# Altium footprint library qfp_footp.PcbLib: 36 footprints (part 3 of 4)
Each footprint in its own frame and in the unit in brackets; x right, y up, seen from the top. Pads: shape width x height; smd on the part's side, far side on the other; paste and mask are expansions set on the pad; w line width, h text height; cw(c..) or ccw(c..) is an arc to the next point about the centre after c.
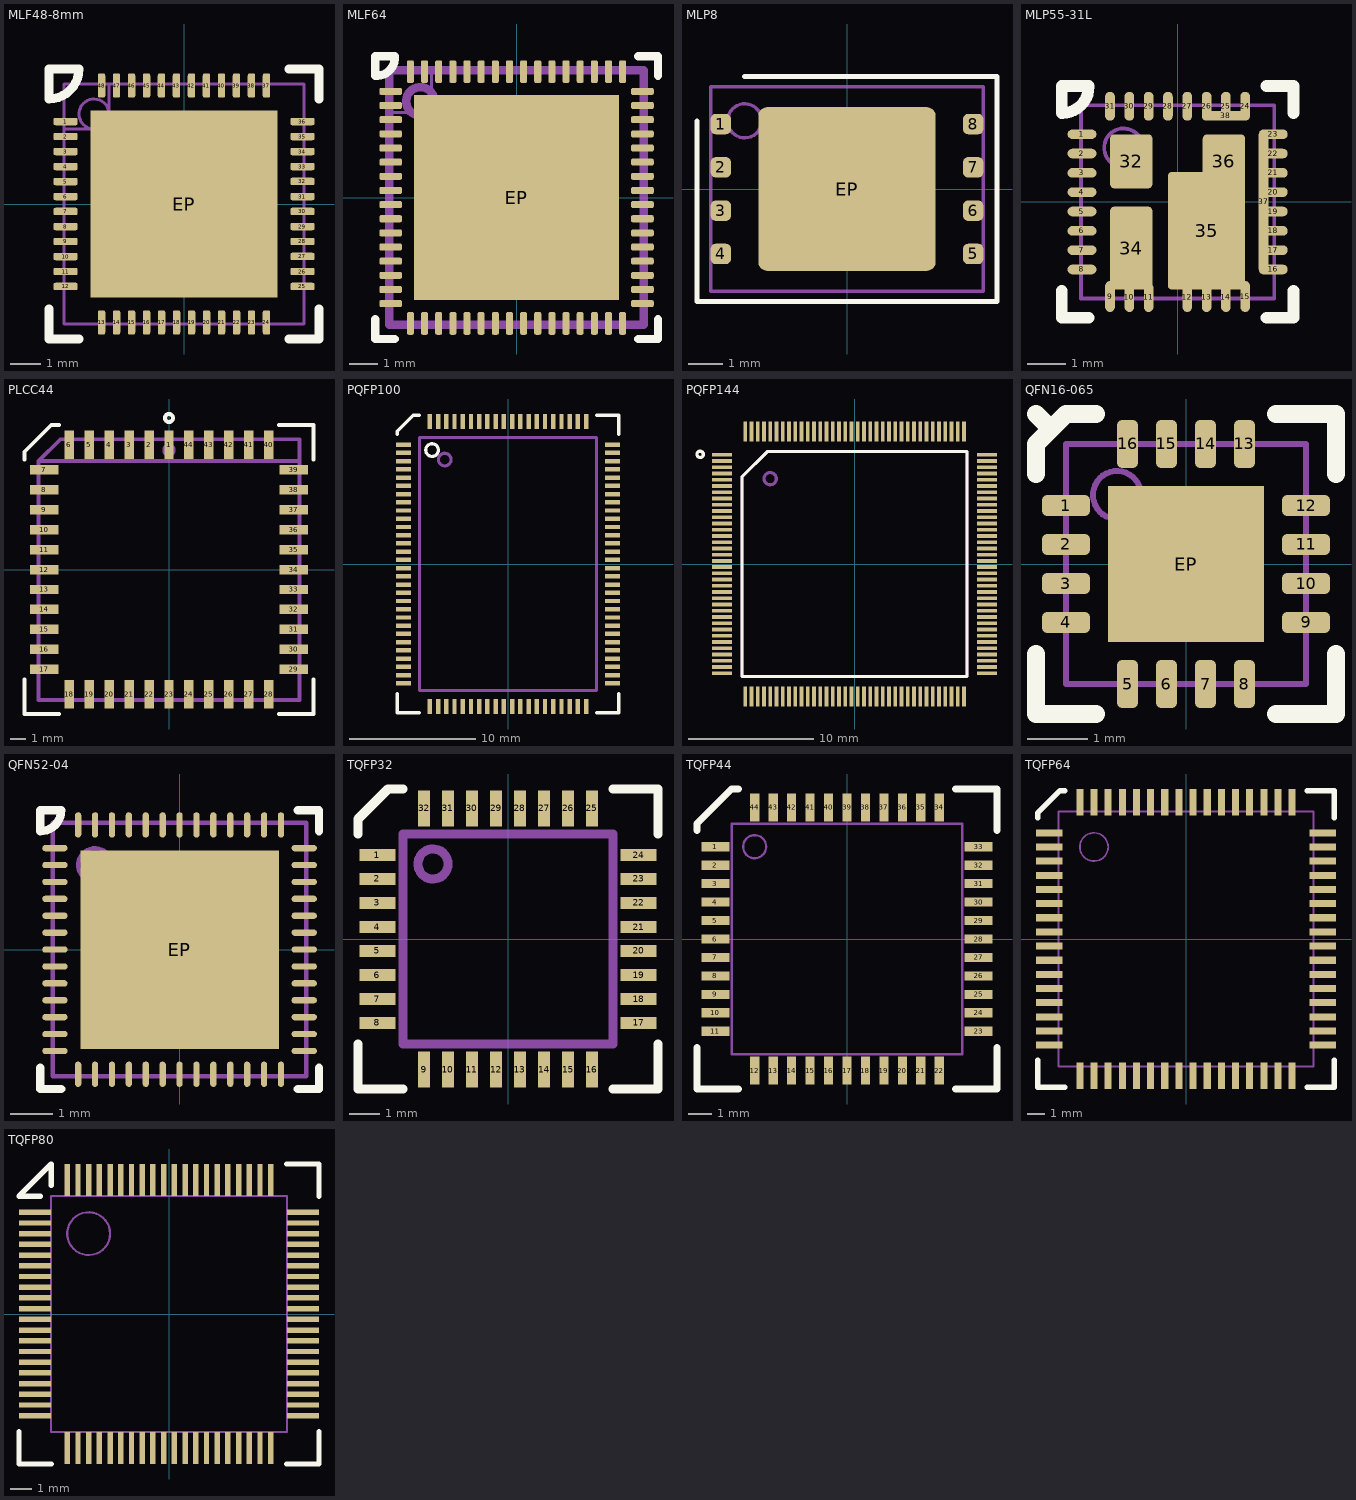
[diagram p2: the footprints below, top view; thin cyan lines are the x and y axes]

## MLF48-8mm [mm]
height 1
pads (49):
  rrect50% 0.8x0.25 smd: 1(-3.95,2.75) 2(-3.95,2.25) 3(-3.95,1.75) 4(-3.95,1.25) 5(-3.95,0.75) 6(-3.95,0.25) 7(-3.95,-0.25) 8(-3.95,-0.75) 9(-3.95,-1.25) 10(-3.95,-1.75) 11(-3.95,-2.25) 12(-3.95,-2.75) 25(3.95,-2.75) 26(3.95,-2.25) 27(3.95,-1.75) 28(3.95,-1.25) 29(3.95,-0.75) 30(3.95,-0.25) 31(3.95,0.25) 32(3.95,0.75) 33(3.95,1.25) 34(3.95,1.75) 35(3.95,2.25) 36(3.95,2.75)
  rrect50% 0.25x0.8 smd: 13(-2.75,-3.95) 14(-2.25,-3.95) 15(-1.75,-3.95) 16(-1.25,-3.95) 17(-0.75,-3.95) 18(-0.25,-3.95) 19(0.25,-3.95) 20(0.75,-3.95) 21(1.25,-3.95) 22(1.75,-3.95) 23(2.25,-3.95) 24(2.75,-3.95) 37(2.75,3.95) 38(2.25,3.95) 39(1.75,3.95) 40(1.25,3.95) 41(0.75,3.95) 42(0.25,3.95) 43(-0.25,3.95) 44(-0.75,3.95) 45(-1.25,3.95) 46(-1.75,3.95) 47(-2.25,3.95) 48(-2.75,3.95)
  rect 6.25x6.25 smd paste-4: EP(0,0)
Top Overlay:
  lines w0.3: -4.5,-3.5 -4.5,-4.5 -3.5,-4.5 ; 3.5,-4.5 4.5,-4.5 4.5,-3.5 ; 3.5,4.5 4.5,4.5 4.5,3.5 ; -4.5,3.5 ccw(c-4.5,4.5) -3.5,4.5 -4.5,4.5 -4.5,3.5
Top Paste:
  rectangle: -0.6,-2.6 0.6,-1.4
  rectangle: 1.4,-2.6 2.6,-1.4
  rectangle: -2.6,-2.6 -1.4,-1.4
  rectangle: -0.6,1.4 0.6,2.6
  rectangle: 1.4,1.4 2.6,2.6
  rectangle: -2.6,1.4 -1.4,2.6
  rectangle: -2.6,-0.6 -1.4,0.6
  rectangle: 1.4,-0.6 2.6,0.6
  rectangle: -0.6,-0.6 0.6,0.6
Mechanical 1:
  circle w0.1: c-3,3 r0.5
  lines w0.1: -4,-4 -4,4 4,4 4,-4 -4,-4
Mechanical 5:
  lines w0.1: -4,2.5 -2.5,2.5 -2.5,4 ; -4,-4 -4,4 4,4 4,-4 -4,-4
  text ".Designator" at -1.5,-1 h1.5
Mechanical 6:
  lines w0.1: -4,2.5 -2.5,2.5 -2.5,4 ; -4,-4 4,-4 4,4 -4,4 -4,-4
  text ".Comment" at -1.5,-1 h1.5
3D body: height 0.2, standoff 0, extent -2.875,3.95 -2.625,4.05
3D body: height 0.2, standoff 0, extent -2.375,3.95 -2.125,4.05
3D body: height 0.2, standoff 0, extent -1.875,3.95 -1.625,4.05
3D body: height 0.2, standoff 0, extent -1.375,3.95 -1.125,4.05
3D body: height 0.2, standoff 0, extent 0.125,3.95 0.375,4.05
3D body: height 0.2, standoff 0, extent 0.625,3.95 0.875,4.05
3D body: height 0.2, standoff 0, extent -0.875,3.95 -0.625,4.05
3D body: height 0.2, standoff 0, extent -0.375,3.95 -0.125,4.05
3D body: height 0.2, standoff 0, extent 1.625,3.95 1.875,4.05
3D body: height 0.2, standoff 0, extent 1.125,3.95 1.375,4.05
3D body: height 0.2, standoff 0, extent -4.05,2.125 -3.95,2.375
3D body: height 0.2, standoff 0, extent -4.05,2.625 -3.95,2.875
3D body: height 0.2, standoff 0, extent -4.05,0.625 -3.95,0.875
3D body: height 0.2, standoff 0, extent -4.05,0.125 -3.95,0.375
3D body: height 0.2, standoff 0, extent -4.05,1.625 -3.95,1.875
3D body: height 0.2, standoff 0, extent -4.05,1.125 -3.95,1.375
3D body: height 0.2, standoff 0, extent 3.95,0.125 4.05,0.375
3D body: height 0.2, standoff 0, extent 3.95,-0.375 4.05,-0.125
3D body: height 0.2, standoff 0, extent 3.95,1.125 4.05,1.375
3D body: height 0.2, standoff 0, extent 3.95,0.625 4.05,0.875
3D body: height 0.2, standoff 0, extent 3.95,-1.375 4.05,-1.125
3D body: height 0.2, standoff 0, extent 3.95,-0.875 4.05,-0.625
3D body: height 0.2, standoff 0, extent -1.875,-4.05 -1.625,-3.95
3D body: height 0.2, standoff 0, extent -2.375,-4.05 -2.125,-3.95
3D body: height 0.2, standoff 0, extent -0.875,-4.05 -0.625,-3.95
3D body: height 0.2, standoff 0, extent -1.375,-4.05 -1.125,-3.95
3D body: height 0.2, standoff 0, extent -4.05,-2.875 -3.95,-2.625
3D body: height 0.2, standoff 0, extent -2.875,-4.05 -2.625,-3.95
3D body: height 0.2, standoff 0, extent 2.125,3.95 2.375,4.05
3D body: height 0.2, standoff 0, extent 2.625,3.95 2.875,4.05
3D body: height 0.2, standoff 0, extent 3.95,-1.875 4.05,-1.625
3D body: height 0.2, standoff 0, extent 3.95,-2.375 4.05,-2.125
3D body: height 0.2, standoff 0, extent -0.375,-4.05 -0.125,-3.95
3D body: height 0.2, standoff 0, extent 0.125,-4.05 0.375,-3.95
3D body: height 0.2, standoff 0, extent -4.05,-0.375 -3.95,-0.125
3D body: height 0.2, standoff 0, extent -4.05,-0.875 -3.95,-0.625
3D body: height 0.2, standoff 0, extent 1.625,-4.05 1.875,-3.95
3D body: height 0.2, standoff 0, extent 1.125,-4.05 1.375,-3.95
3D body: height 0.2, standoff 0, extent 0.625,-4.05 0.875,-3.95
3D body: height 0.2, standoff 0, extent 3.95,1.625 4.05,1.875
3D body: height 0.2, standoff 0, extent 3.95,2.125 4.05,2.375
3D body: height 0.2, standoff 0, extent 3.95,2.625 4.05,2.875
3D body: height 0.2, standoff 0, extent 2.625,-4.05 2.875,-3.95
3D body: height 0.2, standoff 0, extent 3.95,-2.875 4.05,-2.625
3D body: height 0.2, standoff 0, extent 2.125,-4.05 2.375,-3.95
3D body: height 0.2, standoff 0, extent -4.05,-1.875 -3.95,-1.625
3D body: height 0.2, standoff 0, extent -4.05,-1.375 -3.95,-1.125
3D body: height 0.2, standoff 0, extent -4.05,-2.375 -3.95,-2.125
3D body: height 0.8, standoff 0, extent -4,-4 4,4

## MLF64 [mm]
pads (65):
  rrect50% 0.8x0.25 smd: 1(-4.45,3.75) 2(-4.45,3.25) 3(-4.45,2.75) 4(-4.45,2.25) 5(-4.45,1.75) 6(-4.45,1.25) 7(-4.45,0.75) 8(-4.45,0.25) 9(-4.45,-0.25) 10(-4.45,-0.75) 11(-4.45,-1.25) 12(-4.45,-1.75) 13(-4.45,-2.25) 14(-4.45,-2.75) 15(-4.45,-3.25) 16(-4.45,-3.75) 33(4.45,-3.75) 34(4.45,-3.25) 35(4.45,-2.75) 36(4.45,-2.25) 37(4.45,-1.75) 38(4.45,-1.25) 39(4.45,-0.75) 40(4.45,-0.25) 41(4.45,0.25) 42(4.45,0.75) 43(4.45,1.25) 44(4.45,1.75) 45(4.45,2.25) 46(4.45,2.75) 47(4.45,3.25) 48(4.45,3.75)
  rrect50% 0.25x0.8 smd: 17(-3.75,-4.45) 18(-3.25,-4.45) 19(-2.75,-4.45) 20(-2.25,-4.45) 21(-1.75,-4.45) 22(-1.25,-4.45) 23(-0.75,-4.45) 24(-0.25,-4.45) 25(0.25,-4.45) 26(0.75,-4.45) 27(1.25,-4.45) 28(1.75,-4.45) 29(2.25,-4.45) 30(2.75,-4.45) 31(3.25,-4.45) 32(3.75,-4.45) 49(3.75,4.45) 50(3.25,4.45) 51(2.75,4.45) 52(2.25,4.45) 53(1.75,4.45) 54(1.25,4.45) 55(0.75,4.45) 56(0.25,4.45) 57(-0.25,4.45) 58(-0.75,4.45) 59(-1.25,4.45) 60(-1.75,4.45) 61(-2.25,4.45) 62(-2.75,4.45) 63(-3.25,4.45) 64(-3.75,4.45)
  rect 7.25x7.25 smd paste-4: EP(0,0)
Top Overlay:
  lines w0.3: -5,-4.3 -5,-5 -4.3,-5 ; -5,4.3 -5,5 -4.3,5 cw(c-4.95,4.95) -4.9,4.3 ; 4.3,-5 5,-5 5,-4.3 ; 4.3,5 5,5 5,4.3
Top Paste:
  rectangle: -0.7,-0.7 0.7,0.7
  rectangle: 1.6,-0.7 3,0.7
  rectangle: -3,-0.7 -1.6,0.7
  rectangle: -3,1.6 -1.6,3
  rectangle: 1.6,1.6 3,3
  rectangle: -0.7,1.6 0.7,3
  rectangle: -3,-3 -1.6,-1.6
  rectangle: 1.6,-3 3,-1.6
  rectangle: -0.7,-3 0.7,-1.6
Mechanical 1:
  circle w0.3: c-3.4,3.4 r0.5
  lines w0.3: -4.5,-4.5 4.5,-4.5 4.5,4.5 -4.5,4.5 -4.5,-4.5
Mechanical 5:
  lines w0.1: -4.5,3 -3,3 -3,4.5 ; -4.5,-4.5 4.5,-4.5 4.5,4.5 -4.5,4.5 -4.5,-4.5
  text ".Designator" at -1.5,-1 h1.5
Mechanical 6:
  lines w0.1: -4.5,3 -3,3 -3,4.5 ; -4.5,-4.5 -4.5,4.5 4.5,4.5 4.5,-4.5 -4.5,-4.5
  text ".Comment" at -1.5,-1 h1.5
3D body: height 0.2, standoff 0, extent -4.55,0.125 -4.45,0.375
3D body: height 0.2, standoff 0, extent -4.55,0.625 -4.45,0.875
3D body: height 0.2, standoff 0, extent -4.55,2.125 -4.45,2.375
3D body: height 0.2, standoff 0, extent -4.55,2.625 -4.45,2.875
3D body: height 0.2, standoff 0, extent -4.55,1.125 -4.45,1.375
3D body: height 0.2, standoff 0, extent -4.55,1.625 -4.45,1.875
3D body: height 0.2, standoff 0, extent -4.55,3.625 -4.45,3.875
3D body: height 0.2, standoff 0, extent -4.55,3.125 -4.45,3.375
3D body: height 0.8, standoff 0, extent -4.5,-4.5 4.5,4.5
3D body: height 0.2, standoff 0, extent -4.55,-2.375 -4.45,-2.125
3D body: height 0.2, standoff 0, extent -4.55,-2.875 -4.45,-2.625
3D body: height 0.2, standoff 0, extent -4.55,-1.375 -4.45,-1.125
3D body: height 0.2, standoff 0, extent -4.55,-1.875 -4.45,-1.625
3D body: height 0.2, standoff 0, extent -4.55,-3.875 -4.45,-3.625
3D body: height 0.2, standoff 0, extent -4.55,-3.375 -4.45,-3.125
3D body: height 0.2, standoff 0, extent -4.55,-0.875 -4.45,-0.625
3D body: height 0.2, standoff 0, extent -4.55,-0.375 -4.45,-0.125
3D body: height 0.2, standoff 0, extent 4.45,-0.375 4.55,-0.125
3D body: height 0.2, standoff 0, extent 4.45,-0.875 4.55,-0.625
3D body: height 0.2, standoff 0, extent 4.45,-3.375 4.55,-3.125
3D body: height 0.2, standoff 0, extent 4.45,-3.875 4.55,-3.625
3D body: height 0.2, standoff 0, extent 4.45,-1.875 4.55,-1.625
3D body: height 0.2, standoff 0, extent 4.45,-1.375 4.55,-1.125
3D body: height 0.2, standoff 0, extent 4.45,-2.875 4.55,-2.625
3D body: height 0.2, standoff 0, extent 4.45,-2.375 4.55,-2.125
3D body: height 0.2, standoff 0, extent 4.45,3.125 4.55,3.375
3D body: height 0.2, standoff 0, extent 4.45,3.625 4.55,3.875
3D body: height 0.2, standoff 0, extent 4.45,1.625 4.55,1.875
3D body: height 0.2, standoff 0, extent 4.45,1.125 4.55,1.375
3D body: height 0.2, standoff 0, extent 4.45,2.625 4.55,2.875
3D body: height 0.2, standoff 0, extent 4.45,2.125 4.55,2.375
3D body: height 0.2, standoff 0, extent 4.45,0.625 4.55,0.875
3D body: height 0.2, standoff 0, extent 4.45,0.125 4.55,0.375
3D body: height 0.2, standoff 0, extent 0.125,4.45 0.375,4.55
3D body: height 0.2, standoff 0, extent 0.625,4.45 0.875,4.55
3D body: height 0.2, standoff 0, extent 3.125,4.45 3.375,4.55
3D body: height 0.2, standoff 0, extent 3.625,4.45 3.875,4.55
3D body: height 0.2, standoff 0, extent 1.625,4.45 1.875,4.55
3D body: height 0.2, standoff 0, extent 1.125,4.45 1.375,4.55
3D body: height 0.2, standoff 0, extent 2.625,4.45 2.875,4.55
3D body: height 0.2, standoff 0, extent 2.125,4.45 2.375,4.55
3D body: height 0.2, standoff 0, extent -3.375,4.45 -3.125,4.55
3D body: height 0.2, standoff 0, extent -3.875,4.45 -3.625,4.55
3D body: height 0.2, standoff 0, extent -1.875,4.45 -1.625,4.55
3D body: height 0.2, standoff 0, extent -1.375,4.45 -1.125,4.55
3D body: height 0.2, standoff 0, extent -2.875,4.45 -2.625,4.55
3D body: height 0.2, standoff 0, extent -2.375,4.45 -2.125,4.55
3D body: height 0.2, standoff 0, extent -0.875,4.45 -0.625,4.55
3D body: height 0.2, standoff 0, extent -0.375,4.45 -0.125,4.55
3D body: height 0.2, standoff 0, extent 0.125,-4.55 0.375,-4.45
3D body: height 0.2, standoff 0, extent 0.625,-4.55 0.875,-4.45
3D body: height 0.2, standoff 0, extent 3.125,-4.55 3.375,-4.45
3D body: height 0.2, standoff 0, extent 3.625,-4.55 3.875,-4.45
3D body: height 0.2, standoff 0, extent 1.625,-4.55 1.875,-4.45
3D body: height 0.2, standoff 0, extent 1.125,-4.55 1.375,-4.45
3D body: height 0.2, standoff 0, extent 2.625,-4.55 2.875,-4.45
3D body: height 0.2, standoff 0, extent 2.125,-4.55 2.375,-4.45
3D body: height 0.2, standoff 0, extent -3.375,-4.55 -3.125,-4.45
3D body: height 0.2, standoff 0, extent -3.875,-4.55 -3.625,-4.45
3D body: height 0.2, standoff 0, extent -1.875,-4.55 -1.625,-4.45
3D body: height 0.2, standoff 0, extent -1.375,-4.55 -1.125,-4.45
3D body: height 0.2, standoff 0, extent -2.875,-4.55 -2.625,-4.45
3D body: height 0.2, standoff 0, extent -2.375,-4.55 -2.125,-4.45
3D body: height 0.2, standoff 0, extent -0.875,-4.55 -0.625,-4.45
3D body: height 0.2, standoff 0, extent -0.375,-4.55 -0.125,-4.45

## MLP8 [mm]
height 1
pads (9):
  rrect50% 0.6x0.6 smd: 1(-3.7,1.905) 2(-3.7,0.635) 3(-3.7,-0.635) 4(-3.7,-1.905) 5(3.7,-1.905) 6(3.7,-0.635) 7(3.7,0.635) 8(3.7,1.905)
  rrect10% 5.2x4.8 smd paste-1.4: EP(0,0)
Top Overlay:
  lines w0.15: -4.4,2 -4.4,-3.3 4.4,-3.3 4.4,3.3 -3,3.3
Mechanical 1:
  circle w0.1: c-3,2 r0.5
  lines w0.1: -4,-3 4,-3 4,3 -4,3 -4,-3
3D body: height 1, standoff 0, extent -4,-3 4,3

## MLP55-31L [mm]
pads (37):
  oval 0.75x0.25 smd: 1(-2.475,1.75) 2(-2.475,1.25) 3(-2.475,0.75) 4(-2.475,0.25) 5(-2.475,-0.25) 6(-2.475,-0.75) 7(-2.475,-1.25) 8(-2.475,-1.75) 16(2.475,-1.75) 17(2.475,-1.25) 18(2.475,-0.75) 19(2.475,-0.25) 20(2.475,0.25) 21(2.475,0.75) 22(2.475,1.25) 23(2.475,1.75)
  oval 0.25x0.8 smd: 9(-1.75,-2.45) 15(1.75,-2.45)
  oval 0.25x0.75 smd: 10(-1.25,-2.475) 11(-0.75,-2.475) 12(0.25,-2.475) 13(0.75,-2.475) 14(1.25,-2.475) 24(1.75,2.475) 25(1.25,2.475) 26(0.75,2.475) 27(0.25,2.475) 28(-0.25,2.475) 29(-0.75,2.475) 30(-1.25,2.475) 31(-1.75,2.475)
  rrect20% 1.1x1.4 smd paste-2: 32(-1.2,1.05) 36(1.2,1.05)
  rrect20% 1.1x2.15 smd paste-2: 34(-1.2,-1.2)
  rrect10% 2x3.05 smd paste-2: 35(0.75,-0.75)
  oval 0.25x3.75 smd paste-1: 37(2.225,0)
  oval 1.25x0.25 smd paste-1: 38(1.25,2.225)
Top Layer:
  lines w0.05: -1.75,2.475 -1.75,2.475
Top Overlay:
  lines w0.3: -3,-2.3 -3,-3 -2.3,-3 ; -2.3,2.983 cw(c-2.983,2.983) -2.5,2.5 cw(c-2.983,2.983) -2.983,2.3 -3,2.3 -3,3 -2.3,3 ; 2.3,-3 3,-3 3,-2.3 ; 2.3,3 3,3 3,2.3
Top Paste:
  rectangle: 0.3,-1.7 1.2,0.3
  rectangle: 0.9,0.9 1.5,1.5
  rectangle: -1.5,0.6 -0.9,1.5
  rectangle: -1.5,-1.8 -0.9,-0.4
Mechanical 1:
  circle w0.1: c-1.4,1.4 r0.5
  lines w0.1: -2.5,-2.5 -2.5,2.5 2.5,2.5 2.5,-2.5 -2.5,-2.5
3D body: height 0.2, standoff 0, extent -0.875,2.45 -0.625,2.55
3D body: height 0.2, standoff 0, extent -0.375,2.45 -0.125,2.55
3D body: height 0.2, standoff 0, extent -1.875,2.45 -1.625,2.55
3D body: height 0.2, standoff 0, extent -1.375,2.45 -1.125,2.55
3D body: height 0.2, standoff 0, extent 0.625,2.45 0.875,2.55
3D body: height 0.2, standoff 0, extent 0.125,2.45 0.375,2.55
3D body: height 0.2, standoff 0, extent -2.55,1.125 -2.45,1.375
3D body: height 0.2, standoff 0, extent -2.55,1.625 -2.45,1.875
3D body: height 0.2, standoff 0, extent -2.55,-0.375 -2.45,-0.125
3D body: height 0.2, standoff 0, extent -2.55,-0.875 -2.45,-0.625
3D body: height 0.2, standoff 0, extent -2.55,0.625 -2.45,0.875
3D body: height 0.2, standoff 0, extent -2.55,0.125 -2.45,0.375
3D body: height 0.2, standoff 0, extent 2.45,0.625 2.55,0.875
3D body: height 0.2, standoff 0, extent 2.45,0.125 2.55,0.375
3D body: height 0.2, standoff 0, extent 2.45,1.625 2.55,1.875
3D body: height 0.2, standoff 0, extent 2.45,1.125 2.55,1.375
3D body: height 0.2, standoff 0, extent 2.45,-0.875 2.55,-0.625
3D body: height 0.2, standoff 0, extent 2.45,-0.375 2.55,-0.125
3D body: height 0.2, standoff 0, extent -0.875,-2.55 -0.625,-2.45
3D body: height 0.2, standoff 0, extent 0.625,-2.55 0.875,-2.45
3D body: height 0.2, standoff 0, extent 0.125,-2.55 0.375,-2.45
3D body: height 0.2, standoff 0, extent -1.875,-2.55 -1.625,-2.45
3D body: height 0.2, standoff 0, extent -1.375,-2.55 -1.125,-2.45
3D body: height 0.2, standoff 0, extent 1.125,2.45 1.375,2.55
3D body: height 0.2, standoff 0, extent 1.625,2.45 1.875,2.55
3D body: height 0.2, standoff 0, extent 2.45,-1.375 2.55,-1.125
3D body: height 0.2, standoff 0, extent 2.45,-1.875 2.55,-1.625
3D body: height 0.2, standoff 0, extent 1.125,-2.55 1.375,-2.45
3D body: height 0.2, standoff 0, extent 1.625,-2.55 1.875,-2.45
3D body: height 0.2, standoff 0, extent -2.55,-1.375 -2.45,-1.125
3D body: height 0.2, standoff 0, extent -2.55,-1.875 -2.45,-1.625
3D body: height 0.8, standoff 0, extent -2.5,-2.5 2.5,2.5

## PLCC44 [mm]
pads (44):
  rect 0.6x1.8 smd: 1(0,7.95) 2(-1.27,7.95) 3(-2.54,7.95) 4(-3.81,7.95) 5(-5.08,7.95) 6(-6.35,7.95) 18(-6.35,-7.95) 19(-5.08,-7.95) 20(-3.81,-7.95) 21(-2.54,-7.95) 22(-1.27,-7.95) 23(0,-7.95) 24(1.27,-7.95) 25(2.54,-7.95) 26(3.81,-7.95) 27(5.08,-7.95) 28(6.35,-7.95) 40(6.35,7.95) 41(5.08,7.95) 42(3.81,7.95) 43(2.54,7.95) 44(1.27,7.95)
  rect 1.8x0.6 smd: 7(-7.95,6.35) 8(-7.95,5.08) 9(-7.95,3.81) 10(-7.95,2.54) 11(-7.95,1.27) 12(-7.95,0) 13(-7.95,-1.27) 14(-7.95,-2.54) 15(-7.95,-3.81) 16(-7.95,-5.08) 17(-7.95,-6.35) 29(7.95,-6.35) 30(7.95,-5.08) 31(7.95,-3.81) 32(7.95,-2.54) 33(7.95,-1.27) 34(7.95,0) 35(7.95,1.27) 36(7.95,2.54) 37(7.95,3.81) 38(7.95,5.08) 39(7.95,6.35)
Top Overlay:
  circle w0.25: c0,9.652 r0.254
  lines w0.25: -9.2,-7 -9.2,-9.2 -7,-9.2 ; -9.2,7 -9.2,7.5 -7.5,9.2 -7,9.2 ; 7,-9.2 9.2,-9.2 9.2,-7 ; 7,9.2 9.2,9.2 9.2,7
Mechanical 1:
  circle w0.25: c0,7.6 r0.3
  lines w0.25: 8.3,6.9 -8.3,6.9 ; -8.3,6.9 -8.3,-8.3 8.3,-8.3 8.3,8.3 -6.9,8.3 -8.3,6.9

## PQFP100 [mm]
pads (100):
  rect 1.2x0.35 smd: 1(-8.25,9.425) 2(-8.25,8.775) 3(-8.25,8.125) 4(-8.25,7.475) 5(-8.25,6.825) 6(-8.25,6.175) 7(-8.25,5.525) 8(-8.25,4.875) 9(-8.25,4.225) 10(-8.25,3.575) 11(-8.25,2.925) 12(-8.25,2.275) 13(-8.25,1.625) 14(-8.25,0.975) 15(-8.25,0.325) 16(-8.25,-0.325) 17(-8.25,-0.975) 18(-8.25,-1.625) 19(-8.25,-2.275) 20(-8.25,-2.925) 21(-8.25,-3.575) 22(-8.25,-4.225) 23(-8.25,-4.875) 24(-8.25,-5.525) 25(-8.25,-6.175) 26(-8.25,-6.825) 27(-8.25,-7.475) 28(-8.25,-8.125) 29(-8.25,-8.775) 30(-8.25,-9.425) 51(8.25,-9.425) 52(8.25,-8.775) 53(8.25,-8.125) 54(8.25,-7.475) 55(8.25,-6.825) 56(8.25,-6.175) 57(8.25,-5.525) 58(8.25,-4.875) 59(8.25,-4.225) 60(8.25,-3.575) 61(8.25,-2.925) 62(8.25,-2.275) 63(8.25,-1.625) 64(8.25,-0.975) 65(8.25,-0.325) 66(8.25,0.325) 67(8.25,0.975) 68(8.25,1.625) 69(8.25,2.275) 70(8.25,2.925) 71(8.25,3.575) 72(8.25,4.225) 73(8.25,4.875) 74(8.25,5.525) 75(8.25,6.175) 76(8.25,6.825) 77(8.25,7.475) 78(8.25,8.125) 79(8.25,8.775) 80(8.25,9.425)
  rect 0.35x1.2 smd: 31(-6.175,-11.25) 32(-5.525,-11.25) 33(-4.875,-11.25) 34(-4.225,-11.25) 35(-3.575,-11.25) 36(-2.925,-11.25) 37(-2.275,-11.25) 38(-1.625,-11.25) 39(-0.975,-11.25) 40(-0.325,-11.25) 41(0.325,-11.25) 42(0.975,-11.25) 43(1.625,-11.25) 44(2.275,-11.25) 45(2.925,-11.25) 46(3.575,-11.25) 47(4.225,-11.25) 48(4.875,-11.25) 49(5.525,-11.25) 50(6.175,-11.25) 81(6.175,11.25) 82(5.525,11.25) 83(4.875,11.25) 84(4.225,11.25) 85(3.575,11.25) 86(2.925,11.25) 87(2.275,11.25) 88(1.625,11.25) 89(0.975,11.25) 90(0.325,11.25) 91(-0.325,11.25) 92(-0.975,11.25) 93(-1.625,11.25) 94(-2.275,11.25) 95(-2.925,11.25) 96(-3.575,11.25) 97(-4.225,11.25) 98(-4.875,11.25) 99(-5.525,11.25) 100(-6.175,11.25)
Top Overlay:
  circle w0.25: c-6,9 r0.5
  lines w0.25: -8.75,-10.25 -8.75,-11.75 -7,-11.75 ; -8.75,10.25 -8.75,10.5 -7.5,11.75 -7,11.75 ; 7,-11.75 8.75,-11.75 8.75,-10.25 ; 7,11.75 8.75,11.75 8.75,10.25
Mechanical 1:
  circle w0.25: c-5,8.25 r0.5
  lines w0.25: -7,-10 7,-10 7,10 -7,10 -7,-10

## PQFP144 [mm]
pads (144):
  rect 1.6x0.3 smd: 1(-10.6,8.75) 2(-10.6,8.25) 3(-10.6,7.75) 4(-10.6,7.25) 5(-10.6,6.75) 6(-10.6,6.25) 7(-10.6,5.75) 8(-10.6,5.25) 9(-10.6,4.75) 10(-10.6,4.25) 11(-10.6,3.75) 12(-10.6,3.25) 13(-10.6,2.75) 14(-10.6,2.25) 15(-10.6,1.75) 16(-10.6,1.25) 17(-10.6,0.75) 18(-10.6,0.25) 19(-10.6,-0.25) 20(-10.6,-0.75) 21(-10.6,-1.25) 22(-10.6,-1.75) 23(-10.6,-2.25) 24(-10.6,-2.75) 25(-10.6,-3.25) 26(-10.6,-3.75) 27(-10.6,-4.25) 28(-10.6,-4.75) 29(-10.6,-5.25) 30(-10.6,-5.75) 31(-10.6,-6.25) 32(-10.6,-6.75) 33(-10.6,-7.25) 34(-10.6,-7.75) 35(-10.6,-8.25) 36(-10.6,-8.75) 73(10.6,-8.75) 74(10.6,-8.25) 75(10.6,-7.75) 76(10.6,-7.25) 77(10.6,-6.75) 78(10.6,-6.25) 79(10.6,-5.75) 80(10.6,-5.25) 81(10.6,-4.75) 82(10.6,-4.25) 83(10.6,-3.75) 84(10.6,-3.25) 85(10.6,-2.75) 86(10.6,-2.25) 87(10.6,-1.75) 88(10.6,-1.25) 89(10.6,-0.75) 90(10.6,-0.25) 91(10.6,0.25) 92(10.6,0.75) 93(10.6,1.25) 94(10.6,1.75) 95(10.6,2.25) 96(10.6,2.75) 97(10.6,3.25) 98(10.6,3.75) 99(10.6,4.25) 100(10.6,4.75) 101(10.6,5.25) 102(10.6,5.75) 103(10.6,6.25) 104(10.6,6.75) 105(10.6,7.25) 106(10.6,7.75) 107(10.6,8.25) 108(10.6,8.75)
  rect 0.3x1.6 smd: 37(-8.75,-10.6) 38(-8.25,-10.6) 39(-7.75,-10.6) 40(-7.25,-10.6) 41(-6.75,-10.6) 42(-6.25,-10.6) 43(-5.75,-10.6) 44(-5.25,-10.6) 45(-4.75,-10.6) 46(-4.25,-10.6) 47(-3.75,-10.6) 48(-3.25,-10.6) 49(-2.75,-10.6) 50(-2.25,-10.6) 51(-1.75,-10.6) 52(-1.25,-10.6) 53(-0.75,-10.6) 54(-0.25,-10.6) 55(0.25,-10.6) 56(0.75,-10.6) 57(1.25,-10.6) 58(1.75,-10.6) 59(2.25,-10.6) 60(2.75,-10.6) 61(3.25,-10.6) 62(3.75,-10.6) 63(4.25,-10.6) 64(4.75,-10.6) 65(5.25,-10.6) 66(5.75,-10.6) 67(6.25,-10.6) 68(6.75,-10.6) 69(7.25,-10.6) 70(7.75,-10.6) 71(8.25,-10.6) 72(8.75,-10.6) 109(8.75,10.6) 110(8.25,10.6) 111(7.75,10.6) 112(7.25,10.6) 113(6.75,10.6) 114(6.25,10.6) 115(5.75,10.6) 116(5.25,10.6) 117(4.75,10.6) 118(4.25,10.6) 119(3.75,10.6) 120(3.25,10.6) 121(2.75,10.6) 122(2.25,10.6) 123(1.75,10.6) 124(1.25,10.6) 125(0.75,10.6) 126(0.25,10.6) 127(-0.25,10.6) 128(-0.75,10.6) 129(-1.25,10.6) 130(-1.75,10.6) 131(-2.25,10.6) 132(-2.75,10.6) 133(-3.25,10.6) 134(-3.75,10.6) 135(-4.25,10.6) 136(-4.75,10.6) 137(-5.25,10.6) 138(-5.75,10.6) 139(-6.25,10.6) 140(-6.75,10.6) 141(-7.25,10.6) 142(-7.75,10.6) 143(-8.25,10.6) 144(-8.75,10.6)
Top Overlay:
  circle w0.254: c-12.36,8.78 r0.254
  lines w0.254: -9,-9 9,-9 9,9 -7,9 -9,7 -9,-9
Mechanical 1:
  circle w0.254: c-6.76,6.83 r0.49
  lines w0.254: -9,-9 9,-9 9,9 -7,9 -9,7 -9,-9

## QFN16-065 [mm]
height 0.8
pads (17):
  rrect50% 0.8x0.35 smd: 1(-2,0.975) 2(-2,0.325) 3(-2,-0.325) 4(-2,-0.975) 9(2,-0.975) 10(2,-0.325) 11(2,0.325) 12(2,0.975)
  rrect50% 0.35x0.8 smd: 5(-0.975,-2) 6(-0.325,-2) 7(0.325,-2) 8(0.975,-2) 13(0.975,2) 14(0.325,2) 15(-0.325,2) 16(-0.975,2)
  rect 2.6x2.6 smd paste-0.5: EP(0,0)
Top Overlay:
  lines w0.3: -2.5,-1.5 -2.5,-2.5 -1.5,-2.5 ; -2.5,1.5 -2.5,2 -2,2.5 -1.5,2.5 ; -2.5,2.5 -2.25,2.25 ; 1.5,-2.5 2.5,-2.5 2.5,-1.5 ; 1.5,2.5 2.5,2.5 2.5,1.5
Mechanical 1:
  circle w0.1: c-1.15,1.15 r0.4
  lines w0.1: -2,-2 -2,2 2,2 2,-2 -2,-2
3D body: height 0.8, standoff 0, extent -2,-2 2,2
3D body: height 0.2, standoff 0, extent -2.05,0.825 -1.95,1.125
3D body: height 0.2, standoff 0, extent -2.05,0.175 -1.95,0.475
3D body: height 0.2, standoff 0, extent -2.05,-0.475 -1.95,-0.175
3D body: height 0.2, standoff 0, extent -2.05,-1.125 -1.95,-0.825
3D body: height 0.2, standoff 0, extent 1.95,0.825 2.05,1.125
3D body: height 0.2, standoff 0, extent 1.95,0.175 2.05,0.475
3D body: height 0.2, standoff 0, extent 1.95,-0.475 2.05,-0.175
3D body: height 0.2, standoff 0, extent 1.95,-1.125 2.05,-0.825
3D body: height 0.2, standoff 0, extent 0.825,-2.05 1.125,-1.95
3D body: height 0.2, standoff 0, extent 0.175,-2.05 0.475,-1.95
3D body: height 0.2, standoff 0, extent -0.475,-2.05 -0.175,-1.95
3D body: height 0.2, standoff 0, extent -1.125,-2.05 -0.825,-1.95
3D body: height 0.2, standoff 0, extent 0.825,1.95 1.125,2.05
3D body: height 0.2, standoff 0, extent 0.175,1.95 0.475,2.05
3D body: height 0.2, standoff 0, extent -0.475,1.95 -0.175,2.05
3D body: height 0.2, standoff 0, extent -1.125,1.95 -0.825,2.05

## QFN52-04 [mm]
height 1
pads (53):
  oval 0.6x0.15 smd: 1(-2.95,2.4) 2(-2.95,2) 3(-2.95,1.6) 4(-2.95,1.2) 5(-2.95,0.8) 6(-2.95,0.4) 7(-2.95,0) 8(-2.95,-0.4) 9(-2.95,-0.8) 10(-2.95,-1.2) 11(-2.95,-1.6) 12(-2.95,-2) 13(-2.95,-2.4) 27(2.95,-2.4) 28(2.95,-2) 29(2.95,-1.6) 30(2.95,-1.2) 31(2.95,-0.8) 32(2.95,-0.4) 33(2.95,0) 34(2.95,0.4) 35(2.95,0.8) 36(2.95,1.2) 37(2.95,1.6) 38(2.95,2) 39(2.95,2.4)
  oval 0.15x0.6 smd: 14(-2.4,-2.95) 15(-2,-2.95) 16(-1.6,-2.95) 17(-1.2,-2.95) 18(-0.8,-2.95) 19(-0.4,-2.95) 20(0,-2.95) 21(0.4,-2.95) 22(0.8,-2.95) 23(1.2,-2.95) 24(1.6,-2.95) 25(2,-2.95) 26(2.4,-2.95) 40(2.4,2.95) 41(2,2.95) 42(1.6,2.95) 43(1.2,2.95) 44(0.8,2.95) 45(0.4,2.95) 46(0,2.95) 47(-0.4,2.95) 48(-0.8,2.95) 49(-1.2,2.95) 50(-1.6,2.95) 51(-2,2.95) 52(-2.4,2.95)
  rect 4.7x4.7 smd paste-3: EP(0,0)
Top Overlay:
  lines w0.2: -3.3,-2.8 -3.3,-3.3 -2.8,-3.3 ; 2.8,-3.3 3.3,-3.3 3.3,-2.8 ; 2.8,3.3 3.3,3.3 3.3,2.8 ; -3.3,2.8 ccw(c-3.3,3.3) -2.8,3.3 -3.3,3.3 -3.3,2.8
Top Paste:
  rectangle: -1.7,-1.7 -0.4,-0.4
  rectangle: 0.4,-1.7 1.7,-0.4
  rectangle: 0.4,0.4 1.7,1.7
  rectangle: -1.7,0.4 -0.4,1.7
Mechanical 1:
  circle w0.1: c-2,2 r0.4
  lines w0.1: -3,-3 3,-3 3,3 -3,3 -3,-3
3D body: height 0.2, standoff 0, extent -3.05,2.3 -2.95,2.5
3D body: height 0.8, standoff 0, extent -3,-3 3,3
3D body: height 0.2, standoff 0, extent -3.05,1.9 -2.95,2.1
3D body: height 0.2, standoff 0, extent -3.05,1.1 -2.95,1.3
3D body: height 0.2, standoff 0, extent -3.05,1.5 -2.95,1.7
3D body: height 0.2, standoff 0, extent -3.05,-0.1 -2.95,0.1
3D body: height 0.2, standoff 0, extent -3.05,-0.5 -2.95,-0.3
3D body: height 0.2, standoff 0, extent -3.05,0.3 -2.95,0.5
3D body: height 0.2, standoff 0, extent -3.05,0.7 -2.95,0.9
3D body: height 0.2, standoff 0, extent -3.05,-1.7 -2.95,-1.5
3D body: height 0.2, standoff 0, extent -3.05,-2.1 -2.95,-1.9
3D body: height 0.2, standoff 0, extent -3.05,-1.3 -2.95,-1.1
3D body: height 0.2, standoff 0, extent -3.05,-0.9 -2.95,-0.7
3D body: height 0.2, standoff 0, extent -3.05,-2.5 -2.95,-2.3
3D body: height 0.2, standoff 0, extent 2.3,-3.05 2.5,-2.95
3D body: height 0.2, standoff 0, extent 0.7,-3.05 0.9,-2.95
3D body: height 0.2, standoff 0, extent 1.1,-3.05 1.3,-2.95
3D body: height 0.2, standoff 0, extent 1.9,-3.05 2.1,-2.95
3D body: height 0.2, standoff 0, extent 1.5,-3.05 1.7,-2.95
3D body: height 0.2, standoff 0, extent -0.9,-3.05 -0.7,-2.95
3D body: height 0.2, standoff 0, extent -0.5,-3.05 -0.3,-2.95
3D body: height 0.2, standoff 0, extent 0.3,-3.05 0.5,-2.95
3D body: height 0.2, standoff 0, extent -0.1,-3.05 0.1,-2.95
3D body: height 0.2, standoff 0, extent -1.7,-3.05 -1.5,-2.95
3D body: height 0.2, standoff 0, extent -1.3,-3.05 -1.1,-2.95
3D body: height 0.2, standoff 0, extent -2.1,-3.05 -1.9,-2.95
3D body: height 0.2, standoff 0, extent -2.5,-3.05 -2.3,-2.95
3D body: height 0.2, standoff 0, extent 2.3,2.95 2.5,3.05
3D body: height 0.2, standoff 0, extent 0.7,2.95 0.9,3.05
3D body: height 0.2, standoff 0, extent 1.1,2.95 1.3,3.05
3D body: height 0.2, standoff 0, extent 1.9,2.95 2.1,3.05
3D body: height 0.2, standoff 0, extent 1.5,2.95 1.7,3.05
3D body: height 0.2, standoff 0, extent -0.9,2.95 -0.7,3.05
3D body: height 0.2, standoff 0, extent -0.5,2.95 -0.3,3.05
3D body: height 0.2, standoff 0, extent 0.3,2.95 0.5,3.05
3D body: height 0.2, standoff 0, extent -0.1,2.95 0.1,3.05
3D body: height 0.2, standoff 0, extent -1.7,2.95 -1.5,3.05
3D body: height 0.2, standoff 0, extent -1.3,2.95 -1.1,3.05
3D body: height 0.2, standoff 0, extent -2.1,2.95 -1.9,3.05
3D body: height 0.2, standoff 0, extent -2.5,2.95 -2.3,3.05
3D body: height 0.2, standoff 0, extent 2.95,-2.5 3.05,-2.3
3D body: height 0.2, standoff 0, extent 2.95,-0.9 3.05,-0.7
3D body: height 0.2, standoff 0, extent 2.95,-1.3 3.05,-1.1
3D body: height 0.2, standoff 0, extent 2.95,-2.1 3.05,-1.9
3D body: height 0.2, standoff 0, extent 2.95,-1.7 3.05,-1.5
3D body: height 0.2, standoff 0, extent 2.95,0.7 3.05,0.9
3D body: height 0.2, standoff 0, extent 2.95,0.3 3.05,0.5
3D body: height 0.2, standoff 0, extent 2.95,-0.5 3.05,-0.3
3D body: height 0.2, standoff 0, extent 2.95,-0.1 3.05,0.1
3D body: height 0.2, standoff 0, extent 2.95,1.5 3.05,1.7
3D body: height 0.2, standoff 0, extent 2.95,1.1 3.05,1.3
3D body: height 0.2, standoff 0, extent 2.95,1.9 3.05,2.1
3D body: height 0.2, standoff 0, extent 2.95,2.3 3.05,2.5

## TQFP32 [mm] "0.8 mm pitch"
pads (32):
  rect 1.2x0.4 smd: 1(-4.354,2.8) 2(-4.354,2) 3(-4.354,1.2) 4(-4.354,0.4) 5(-4.354,-0.4) 6(-4.354,-1.2) 7(-4.354,-2) 8(-4.354,-2.8) 17(4.354,-2.8) 18(4.354,-2) 19(4.354,-1.2) 20(4.354,-0.4) 21(4.354,0.4) 22(4.354,1.2) 23(4.354,2) 24(4.354,2.8)
  rect 0.4x1.2 smd: 9(-2.8,-4.354) 10(-2,-4.354) 11(-1.2,-4.354) 12(-0.4,-4.354) 13(0.4,-4.354) 14(1.2,-4.354) 15(2,-4.354) 16(2.8,-4.354) 25(2.8,4.354) 26(2,4.354) 27(1.2,4.354) 28(0.4,4.354) 29(-0.4,4.354) 30(-1.2,4.354) 31(-2,4.354) 32(-2.8,4.354)
Top Overlay:
  lines w0.3: -5,-3.5 -5,-5 -3.5,-5 ; -5,3.5 -5,4 -4,5 -3.5,5 ; 3.5,-5 5,-5 5,-3.5 ; 3.5,5 5,5 5,3.5
Mechanical 1:
  circle w0.3: c-2.5,2.5 r0.5
  lines w0.3: -3.5,-3.5 -3.5,3.5 3.5,3.5 3.5,-3.5 -3.5,-3.5
3D body: height 0.66, standoff 0, extent 3.102,-2.94 4.603,-2.64
3D body: height 0.66, standoff 0, extent 3.102,-2.14 4.603,-1.84
3D body: height 0.66, standoff 0, extent 3.102,-0.54 4.603,-0.24
3D body: height 0.66, standoff 0, extent 3.102,-1.34 4.603,-1.04
3D body: height 0.66, standoff 0, extent 3.102,1.86 4.603,2.16
3D body: height 0.66, standoff 0, extent 3.102,2.66 4.603,2.96
3D body: height 0.66, standoff 0, extent 3.102,1.06 4.603,1.36
3D body: height 0.66, standoff 0, extent 3.102,0.26 4.603,0.56
3D body: height 0.66, standoff 0, extent -2.94,-4.603 -2.64,-3.102
3D body: height 0.66, standoff 0, extent -2.14,-4.603 -1.84,-3.102
3D body: height 0.66, standoff 0, extent -0.54,-4.603 -0.24,-3.102
3D body: height 0.66, standoff 0, extent -1.34,-4.603 -1.04,-3.102
3D body: height 0.66, standoff 0, extent 1.86,-4.603 2.16,-3.102
3D body: height 0.66, standoff 0, extent 2.66,-4.603 2.96,-3.102
3D body: height 0.66, standoff 0, extent 1.06,-4.603 1.36,-3.102
3D body: height 0.66, standoff 0, extent 0.26,-4.603 0.56,-3.102
3D body: height 0.66, standoff 0, extent -4.603,-0.56 -3.102,-0.26
3D body: height 0.66, standoff 0, extent -4.603,-1.36 -3.102,-1.06
3D body: height 0.66, standoff 0, extent -4.603,-2.96 -3.102,-2.66
3D body: height 0.66, standoff 0, extent -4.603,-2.16 -3.102,-1.86
3D body: height 0.66, standoff 0, extent -4.603,1.04 -3.102,1.34
3D body: height 0.66, standoff 0, extent -4.603,0.24 -3.102,0.54
3D body: height 0.66, standoff 0, extent -4.603,1.84 -3.102,2.14
3D body: height 1.2, standoff 0.1, extent -3.5,-3.5 3.5,3.5
3D body: height 0.66, standoff 0, extent -4.603,2.64 -3.102,2.94
3D body: height 0.66, standoff 0, extent 1.04,3.102 1.34,4.603
3D body: height 0.66, standoff 0, extent 0.24,3.102 0.54,4.603
3D body: height 0.66, standoff 0, extent 1.84,3.102 2.14,4.603
3D body: height 0.66, standoff 0, extent 2.64,3.102 2.94,4.603
3D body: height 0.66, standoff 0, extent -2.16,3.102 -1.86,4.603
3D body: height 0.66, standoff 0, extent -2.96,3.102 -2.66,4.603
3D body: height 0.66, standoff 0, extent -1.36,3.102 -1.06,4.603
3D body: height 0.66, standoff 0, extent -0.56,3.102 -0.26,4.603

## TQFP44 [mm] "0.8 mm pitch"
pads (44):
  rect 1.2x0.4 smd: 1(-5.7,4) 2(-5.7,3.2) 3(-5.7,2.4) 4(-5.7,1.6) 5(-5.7,0.8) 6(-5.7,0) 7(-5.7,-0.8) 8(-5.7,-1.6) 9(-5.7,-2.4) 10(-5.7,-3.2) 11(-5.7,-4) 23(5.7,-4) 24(5.7,-3.2) 25(5.7,-2.4) 26(5.7,-1.6) 27(5.7,-0.8) 28(5.7,0) 29(5.7,0.8) 30(5.7,1.6) 31(5.7,2.4) 32(5.7,3.2) 33(5.7,4)
  rect 0.4x1.2 smd: 12(-4,-5.7) 13(-3.2,-5.7) 14(-2.4,-5.7) 15(-1.6,-5.7) 16(-0.8,-5.7) 17(0,-5.7) 18(0.8,-5.7) 19(1.6,-5.7) 20(2.4,-5.7) 21(3.2,-5.7) 22(4,-5.7) 34(4,5.7) 35(3.2,5.7) 36(2.4,5.7) 37(1.6,5.7) 38(0.8,5.7) 39(0,5.7) 40(-0.8,5.7) 41(-1.6,5.7) 42(-2.4,5.7) 43(-3.2,5.7) 44(-4,5.7)
Top Overlay:
  lines w0.3: -6.5,-4.7 -6.5,-6.5 -4.7,-6.5 ; -6.5,4.7 -6.5,5 -5,6.5 -4.7,6.5 ; 4.7,-6.5 6.5,-6.5 6.5,-4.7 ; 4.7,6.5 6.5,6.5 6.5,4.7
Mechanical 1:
  circle w0.1: c-4,4 r0.5
  lines w0.1: -5,-5 -5,5 5,5 5,-5 -5,-5
3D body: height 0.66, standoff 0, extent -1.76,4.502 -1.46,6.003
3D body: height 0.66, standoff 0, extent -2.56,4.502 -2.26,6.003
3D body: height 0.66, standoff 0, extent -4.16,4.502 -3.86,6.003
3D body: height 0.66, standoff 0, extent -3.36,4.502 -3.06,6.003
3D body: height 0.66, standoff 0, extent 1.44,4.502 1.74,6.003
3D body: height 0.66, standoff 0, extent 0.64,4.502 0.94,6.003
3D body: height 0.66, standoff 0, extent -0.96,4.502 -0.66,6.003
3D body: height 0.66, standoff 0, extent -0.16,4.502 0.14,6.003
3D body: height 0.66, standoff 0, extent 3.84,4.502 4.14,6.003
3D body: height 0.66, standoff 0, extent 2.24,4.502 2.54,6.003
3D body: height 0.66, standoff 0, extent 3.04,4.502 3.34,6.003
3D body: height 0.66, standoff 0, extent -6.003,3.84 -4.502,4.14
3D body: height 1.2, standoff 0.1, extent -5,-5 5,5
3D body: height 0.66, standoff 0, extent -6.003,3.04 -4.502,3.34
3D body: height 0.66, standoff 0, extent -6.003,1.44 -4.502,1.74
3D body: height 0.66, standoff 0, extent -6.003,2.24 -4.502,2.54
3D body: height 0.66, standoff 0, extent -6.003,-0.96 -4.502,-0.66
3D body: height 0.66, standoff 0, extent -6.003,-1.76 -4.502,-1.46
3D body: height 0.66, standoff 0, extent -6.003,-0.16 -4.502,0.14
3D body: height 0.66, standoff 0, extent -6.003,0.64 -4.502,0.94
3D body: height 0.66, standoff 0, extent -6.003,-4.16 -4.502,-3.86
3D body: height 0.66, standoff 0, extent -6.003,-3.36 -4.502,-3.06
3D body: height 0.66, standoff 0, extent -6.003,-2.56 -4.502,-2.26
3D body: height 0.66, standoff 0, extent -3.34,-6.003 -3.04,-4.502
3D body: height 0.66, standoff 0, extent -2.54,-6.003 -2.24,-4.502
3D body: height 0.66, standoff 0, extent -4.14,-6.003 -3.84,-4.502
3D body: height 0.66, standoff 0, extent -0.14,-6.003 0.16,-4.502
3D body: height 0.66, standoff 0, extent 0.66,-6.003 0.96,-4.502
3D body: height 0.66, standoff 0, extent -0.94,-6.003 -0.64,-4.502
3D body: height 0.66, standoff 0, extent -1.74,-6.003 -1.44,-4.502
3D body: height 0.66, standoff 0, extent 3.06,-6.003 3.36,-4.502
3D body: height 0.66, standoff 0, extent 3.86,-6.003 4.16,-4.502
3D body: height 0.66, standoff 0, extent 2.26,-6.003 2.56,-4.502
3D body: height 0.66, standoff 0, extent 1.46,-6.003 1.76,-4.502
3D body: height 0.66, standoff 0, extent 4.502,-3.34 6.003,-3.04
3D body: height 0.66, standoff 0, extent 4.502,-2.54 6.003,-2.24
3D body: height 0.66, standoff 0, extent 4.502,-4.14 6.003,-3.84
3D body: height 0.66, standoff 0, extent 4.502,-0.14 6.003,0.16
3D body: height 0.66, standoff 0, extent 4.502,0.66 6.003,0.96
3D body: height 0.66, standoff 0, extent 4.502,-0.94 6.003,-0.64
3D body: height 0.66, standoff 0, extent 4.502,-1.74 6.003,-1.44
3D body: height 0.66, standoff 0, extent 4.502,3.06 6.003,3.36
3D body: height 0.66, standoff 0, extent 4.502,3.86 6.003,4.16
3D body: height 0.66, standoff 0, extent 4.502,2.26 6.003,2.56
3D body: height 0.66, standoff 0, extent 4.502,1.46 6.003,1.76

## TQFP64 [mm] "0.8 mm pitch"
pads (64):
  rect 1.5x0.4 smd: 1(-7.727,6) 2(-7.727,5.2) 3(-7.727,4.4) 4(-7.727,3.6) 5(-7.727,2.8) 6(-7.727,2) 7(-7.727,1.2) 8(-7.727,0.4) 9(-7.727,-0.4) 10(-7.727,-1.2) 11(-7.727,-2) 12(-7.727,-2.8) 13(-7.727,-3.6) 14(-7.727,-4.4) 15(-7.727,-5.2) 16(-7.727,-6) 33(7.727,-6) 34(7.727,-5.2) 35(7.727,-4.4) 36(7.727,-3.6) 37(7.727,-2.8) 38(7.727,-2) 39(7.727,-1.2) 40(7.727,-0.4) 41(7.727,0.4) 42(7.727,1.2) 43(7.727,2) 44(7.727,2.8) 45(7.727,3.6) 46(7.727,4.4) 47(7.727,5.2) 48(7.727,6)
  rect 0.4x1.5 smd: 17(-6,-7.727) 18(-5.2,-7.727) 19(-4.4,-7.727) 20(-3.6,-7.727) 21(-2.8,-7.727) 22(-2,-7.727) 23(-1.2,-7.727) 24(-0.4,-7.727) 25(0.4,-7.727) 26(1.2,-7.727) 27(2,-7.727) 28(2.8,-7.727) 29(3.6,-7.727) 30(4.4,-7.727) 31(5.2,-7.727) 32(6,-7.727) 49(6,7.727) 50(5.2,7.727) 51(4.4,7.727) 52(3.6,7.727) 53(2.8,7.727) 54(2,7.727) 55(1.2,7.727) 56(0.4,7.727) 57(-0.4,7.727) 58(-1.2,7.727) 59(-2,7.727) 60(-2.8,7.727) 61(-3.6,7.727) 62(-4.4,7.727) 63(-5.2,7.727) 64(-6,7.727)
Top Overlay:
  lines w0.3: -8.382,-6.858 -8.382,-8.382 -6.858,-8.382 ; -8.382,6.858 -8.382,7.112 -7.112,8.382 -6.858,8.382 ; 6.858,-8.382 8.382,-8.382 8.382,-6.858 ; 6.858,8.382 8.382,8.382 8.382,6.858
Mechanical 1:
  circle w0.1: c-5.2,5.2 r0.8
  lines w0.1: -7.2,-7.2 -7.2,7.2 7.2,7.2 7.2,-7.2 -7.2,-7.2
3D body: height 0.66, standoff 0, extent -8.203,-3.76 -6.702,-3.46
3D body: height 0.66, standoff 0, extent -8.203,-4.56 -6.702,-4.26
3D body: height 0.66, standoff 0, extent -8.203,-6.16 -6.702,-5.86
3D body: height 0.66, standoff 0, extent -8.203,-5.36 -6.702,-5.06
3D body: height 0.66, standoff 0, extent -8.203,-0.56 -6.702,-0.26
3D body: height 0.66, standoff 0, extent -8.203,-1.36 -6.702,-1.06
3D body: height 0.66, standoff 0, extent -8.203,-2.96 -6.702,-2.66
3D body: height 0.66, standoff 0, extent -8.203,-2.16 -6.702,-1.86
3D body: height 0.66, standoff 0, extent -8.203,2.64 -6.702,2.94
3D body: height 0.66, standoff 0, extent -8.203,1.84 -6.702,2.14
3D body: height 0.66, standoff 0, extent -8.203,0.24 -6.702,0.54
3D body: height 0.66, standoff 0, extent -8.203,1.04 -6.702,1.34
3D body: height 0.66, standoff 0, extent -8.203,4.24 -6.702,4.54
3D body: height 0.66, standoff 0, extent -8.203,3.44 -6.702,3.74
3D body: height 0.66, standoff 0, extent -8.203,5.04 -6.702,5.34
3D body: height 1.2, standoff 0.1, extent -7.2,-7.2 7.2,7.2
3D body: height 0.66, standoff 0, extent -8.203,5.84 -6.702,6.14
3D body: height 0.66, standoff 0, extent -6.14,-8.203 -5.84,-6.702
3D body: height 0.66, standoff 0, extent -5.34,-8.203 -5.04,-6.702
3D body: height 0.66, standoff 0, extent -3.74,-8.203 -3.44,-6.702
3D body: height 0.66, standoff 0, extent -4.54,-8.203 -4.24,-6.702
3D body: height 0.66, standoff 0, extent -1.34,-8.203 -1.04,-6.702
3D body: height 0.66, standoff 0, extent -0.54,-8.203 -0.24,-6.702
3D body: height 0.66, standoff 0, extent -2.14,-8.203 -1.84,-6.702
3D body: height 0.66, standoff 0, extent -2.94,-8.203 -2.64,-6.702
3D body: height 0.66, standoff 0, extent 1.86,-8.203 2.16,-6.702
3D body: height 0.66, standoff 0, extent 2.66,-8.203 2.96,-6.702
3D body: height 0.66, standoff 0, extent 1.06,-8.203 1.36,-6.702
3D body: height 0.66, standoff 0, extent 0.26,-8.203 0.56,-6.702
3D body: height 0.66, standoff 0, extent 5.06,-8.203 5.36,-6.702
3D body: height 0.66, standoff 0, extent 5.86,-8.203 6.16,-6.702
3D body: height 0.66, standoff 0, extent 4.26,-8.203 4.56,-6.702
3D body: height 0.66, standoff 0, extent 3.46,-8.203 3.76,-6.702
3D body: height 0.66, standoff 0, extent 6.702,-6.14 8.203,-5.84
3D body: height 0.66, standoff 0, extent 6.702,-5.34 8.203,-5.04
3D body: height 0.66, standoff 0, extent 6.702,-3.74 8.203,-3.44
3D body: height 0.66, standoff 0, extent 6.702,-4.54 8.203,-4.24
3D body: height 0.66, standoff 0, extent 6.702,-1.34 8.203,-1.04
3D body: height 0.66, standoff 0, extent 6.702,-0.54 8.203,-0.24
3D body: height 0.66, standoff 0, extent 6.702,-2.14 8.203,-1.84
3D body: height 0.66, standoff 0, extent 6.702,-2.94 8.203,-2.64
3D body: height 0.66, standoff 0, extent 6.702,1.86 8.203,2.16
3D body: height 0.66, standoff 0, extent 6.702,2.66 8.203,2.96
3D body: height 0.66, standoff 0, extent 6.702,1.06 8.203,1.36
3D body: height 0.66, standoff 0, extent 6.702,0.26 8.203,0.56
3D body: height 0.66, standoff 0, extent 6.702,5.06 8.203,5.36
3D body: height 0.66, standoff 0, extent 6.702,5.86 8.203,6.16
3D body: height 0.66, standoff 0, extent 6.702,4.26 8.203,4.56
3D body: height 0.66, standoff 0, extent 6.702,3.46 8.203,3.76
3D body: height 0.66, standoff 0, extent 5.84,6.702 6.14,8.203
3D body: height 0.66, standoff 0, extent 5.04,6.702 5.34,8.203
3D body: height 0.66, standoff 0, extent 3.44,6.702 3.74,8.203
3D body: height 0.66, standoff 0, extent 4.24,6.702 4.54,8.203
3D body: height 0.66, standoff 0, extent 1.04,6.702 1.34,8.203
3D body: height 0.66, standoff 0, extent 0.24,6.702 0.54,8.203
3D body: height 0.66, standoff 0, extent 1.84,6.702 2.14,8.203
3D body: height 0.66, standoff 0, extent 2.64,6.702 2.94,8.203
3D body: height 0.66, standoff 0, extent -2.16,6.702 -1.86,8.203
3D body: height 0.66, standoff 0, extent -2.96,6.702 -2.66,8.203
3D body: height 0.66, standoff 0, extent -1.36,6.702 -1.06,8.203
3D body: height 0.66, standoff 0, extent -0.56,6.702 -0.26,8.203
3D body: height 0.66, standoff 0, extent -5.36,6.702 -5.06,8.203
3D body: height 0.66, standoff 0, extent -6.16,6.702 -5.86,8.203
3D body: height 0.66, standoff 0, extent -4.56,6.702 -4.26,8.203
3D body: height 0.66, standoff 0, extent -3.76,6.702 -3.46,8.203

## TQFP80 [mm]
height 1.2
pads (80):
  rect 1.5x0.25 smd: 1(-6.25,4.75) 2(-6.25,4.25) 3(-6.25,3.75) 4(-6.25,3.25) 5(-6.25,2.75) 6(-6.25,2.25) 7(-6.25,1.75) 8(-6.25,1.25) 9(-6.25,0.75) 10(-6.25,0.25) 11(-6.25,-0.25) 12(-6.25,-0.75) 13(-6.25,-1.25) 14(-6.25,-1.75) 15(-6.25,-2.25) 16(-6.25,-2.75) 17(-6.25,-3.25) 18(-6.25,-3.75) 19(-6.25,-4.25) 20(-6.25,-4.75) 41(6.25,-4.75) 42(6.25,-4.25) 43(6.25,-3.75) 44(6.25,-3.25) 45(6.25,-2.75) 46(6.25,-2.25) 47(6.25,-1.75) 48(6.25,-1.25) 49(6.25,-0.75) 50(6.25,-0.25) 51(6.25,0.25) 52(6.25,0.75) 53(6.25,1.25) 54(6.25,1.75) 55(6.25,2.25) 56(6.25,2.75) 57(6.25,3.25) 58(6.25,3.75) 59(6.25,4.25) 60(6.25,4.75)
  rect 0.25x1.5 smd: 21(-4.75,-6.25) 22(-4.25,-6.25) 23(-3.75,-6.25) 24(-3.25,-6.25) 25(-2.75,-6.25) 26(-2.25,-6.25) 27(-1.75,-6.25) 28(-1.25,-6.25) 29(-0.75,-6.25) 30(-0.25,-6.25) 31(0.25,-6.25) 32(0.75,-6.25) 33(1.25,-6.25) 34(1.75,-6.25) 35(2.25,-6.25) 36(2.75,-6.25) 37(3.25,-6.25) 38(3.75,-6.25) 39(4.25,-6.25) 40(4.75,-6.25) 61(4.75,6.25) 62(4.25,6.25) 63(3.75,6.25) 64(3.25,6.25) 65(2.75,6.25) 66(2.25,6.25) 67(1.75,6.25) 68(1.25,6.25) 69(0.75,6.25) 70(0.25,6.25) 71(-0.25,6.25) 72(-0.75,6.25) 73(-1.25,6.25) 74(-1.75,6.25) 75(-2.25,6.25) 76(-2.75,6.25) 77(-3.25,6.25) 78(-3.75,6.25) 79(-4.25,6.25) 80(-4.75,6.25)
Top Overlay:
  lines w0.25: -7,-5.5 -7,-7 -5.5,-7 ; -6,5.5 -7,5.5 -5.5,7 -5.5,6 ; 5.5,-7 7,-7 7,-5.5 ; 5.5,7 7,7 7,5.5
Mechanical 1:
  circle w0.1: c-3.75,3.75 r1
  lines w0.1: -6.5,-4.75 -5.5,-4.75 ; -6.5,-4.25 -5.5,-4.25 ; -6.5,-3.75 -5.5,-3.75 ; -6.5,-3.25 -5.5,-3.25 ; -6.5,-2.75 -5.5,-2.75 ; -6.5,-2.25 -5.5,-2.25 ; -6.5,-1.75 -5.5,-1.75 ; -6.5,-1.25 -5.5,-1.25 ; -6.5,-0.75 -5.5,-0.75 ; -6.5,-0.25 -5.5,-0.25 ; -6.5,0.25 -5.5,0.25 ; -6.5,0.75 -5.5,0.75 ; -6.5,1.25 -5.5,1.25 ; -6.5,1.75 -5.5,1.75 ; -6.5,2.25 -5.5,2.25 ; -6.5,2.75 -5.5,2.75 ; -6.5,3.25 -5.5,3.25 ; -6.5,3.75 -5.5,3.75 ; -6.5,4.25 -5.5,4.25 ; -6.5,4.75 -5.5,4.75 ; -4.75,-6.5 -4.75,-5.5 ; -4.75,5.5 -4.75,6.5 ; -4.25,-6.5 -4.25,-5.5 ; -4.25,5.5 -4.25,6.5 ; -3.75,-6.5 -3.75,-5.5 ; -3.75,5.5 -3.75,6.5 ; -3.25,-6.5 -3.25,-5.5 ; -3.25,5.5 -3.25,6.5 ; -2.75,-6.5 -2.75,-5.5 ; -2.75,5.5 -2.75,6.5 ; -2.25,-6.5 -2.25,-5.5 ; -2.25,5.5 -2.25,6.5 ; -1.75,-6.5 -1.75,-5.5 ; -1.75,5.5 -1.75,6.5 ; -1.25,-6.5 -1.25,-5.5 ; -1.25,5.5 -1.25,6.5 ; -0.75,-6.5 -0.75,-5.5 ; -0.75,5.5 -0.75,6.5 ; -0.25,-6.5 -0.25,-5.5 ; -0.25,5.5 -0.25,6.5 ; 0.25,-6.5 0.25,-5.5 ; 0.25,5.5 0.25,6.5 ; 0.75,-6.5 0.75,-5.5 ; 0.75,5.5 0.75,6.5 ; 1.25,-6.5 1.25,-5.5 ; 1.25,5.5 1.25,6.5 ; 1.75,-6.5 1.75,-5.5 ; 1.75,5.5 1.75,6.5 ; 2.25,-6.5 2.25,-5.5 ; 2.25,5.5 2.25,6.5 ; 2.75,-6.5 2.75,-5.5 ; 2.75,5.5 2.75,6.5 ; 3.25,-6.5 3.25,-5.5 ; 3.25,5.5 3.25,6.5 ; 3.75,-6.5 3.75,-5.5 ; 3.75,5.5 3.75,6.5 ; 4.25,-6.5 4.25,-5.5 ; 4.25,5.5 4.25,6.5 ; 4.75,-6.5 4.75,-5.5 ; 4.75,5.5 4.75,6.5 ; 5.5,-4.75 6.5,-4.75 ; 5.5,-4.25 6.5,-4.25 ; 5.5,-3.75 6.5,-3.75 ; 5.5,-3.25 6.5,-3.25 ; 5.5,-2.75 6.5,-2.75 ; 5.5,-2.25 6.5,-2.25 ; 5.5,-1.75 6.5,-1.75 ; 5.5,-1.25 6.5,-1.25 ; 5.5,-0.75 6.5,-0.75 ; 5.5,-0.25 6.5,-0.25 ; 5.5,0.25 6.5,0.25 ; 5.5,0.75 6.5,0.75 ; 5.5,1.25 6.5,1.25 ; 5.5,1.75 6.5,1.75 ; 5.5,2.25 6.5,2.25 ; 5.5,2.75 6.5,2.75 ; 5.5,3.25 6.5,3.25 ; 5.5,3.75 6.5,3.75 ; 5.5,4.25 6.5,4.25 ; 5.5,4.75 6.5,4.75 ; -5.5,-5.5 -5.5,5.5 5.5,5.5 5.5,-5.5 -5.5,-5.5
3D body: height 0.75, standoff 0, extent 4.65,4.877 4.85,6.575
3D body: height 0.75, standoff 0, extent 4.15,4.877 4.35,6.575
3D body: height 0.75, standoff 0, extent 3.15,4.877 3.35,6.575
3D body: height 0.75, standoff 0, extent 3.65,4.877 3.85,6.575
3D body: height 0.75, standoff 0, extent 1.65,4.877 1.85,6.575
3D body: height 0.75, standoff 0, extent 1.15,4.877 1.35,6.575
3D body: height 0.75, standoff 0, extent 2.15,4.877 2.35,6.575
3D body: height 0.75, standoff 0, extent 2.65,4.877 2.85,6.575
3D body: height 0.75, standoff 0, extent -0.35,4.877 -0.15,6.575
3D body: height 0.75, standoff 0, extent -0.85,4.877 -0.65,6.575
3D body: height 0.75, standoff 0, extent 0.15,4.877 0.35,6.575
3D body: height 0.75, standoff 0, extent 0.65,4.877 0.85,6.575
3D body: height 0.75, standoff 0, extent -2.35,4.877 -2.15,6.575
3D body: height 0.75, standoff 0, extent -2.85,4.877 -2.65,6.575
3D body: height 0.75, standoff 0, extent -1.85,4.877 -1.65,6.575
3D body: height 0.75, standoff 0, extent -1.35,4.877 -1.15,6.575
3D body: height 0.75, standoff 0, extent -4.35,4.877 -4.15,6.575
3D body: height 0.75, standoff 0, extent -4.85,4.877 -4.65,6.575
3D body: height 0.75, standoff 0, extent -3.85,4.877 -3.65,6.575
3D body: height 0.75, standoff 0, extent -3.35,4.877 -3.15,6.575
3D body: height 0.75, standoff 0, extent 4.877,-4.85 6.575,-4.65
3D body: height 0.75, standoff 0, extent 4.877,-4.35 6.575,-4.15
3D body: height 0.75, standoff 0, extent 4.877,-3.35 6.575,-3.15
3D body: height 0.75, standoff 0, extent 4.877,-3.85 6.575,-3.65
3D body: height 0.75, standoff 0, extent 4.877,-1.85 6.575,-1.65
3D body: height 0.75, standoff 0, extent 4.877,-1.35 6.575,-1.15
3D body: height 0.75, standoff 0, extent 4.877,-2.35 6.575,-2.15
3D body: height 0.75, standoff 0, extent 4.877,-2.85 6.575,-2.65
3D body: height 0.75, standoff 0, extent 4.877,0.15 6.575,0.35
3D body: height 0.75, standoff 0, extent 4.877,0.65 6.575,0.85
3D body: height 0.75, standoff 0, extent 4.877,-0.35 6.575,-0.15
3D body: height 0.75, standoff 0, extent 4.877,-0.85 6.575,-0.65
3D body: height 0.75, standoff 0, extent 4.877,2.15 6.575,2.35
3D body: height 0.75, standoff 0, extent 4.877,2.65 6.575,2.85
3D body: height 0.75, standoff 0, extent 4.877,1.65 6.575,1.85
3D body: height 0.75, standoff 0, extent 4.877,1.15 6.575,1.35
3D body: height 0.75, standoff 0, extent 4.877,4.15 6.575,4.35
3D body: height 0.75, standoff 0, extent 4.877,4.65 6.575,4.85
3D body: height 0.75, standoff 0, extent 4.877,3.65 6.575,3.85
3D body: height 0.75, standoff 0, extent 4.877,3.15 6.575,3.35
3D body: height 0.75, standoff 0, extent -4.85,-6.575 -4.65,-4.877
3D body: height 0.75, standoff 0, extent -4.35,-6.575 -4.15,-4.877
3D body: height 0.75, standoff 0, extent -3.35,-6.575 -3.15,-4.877
3D body: height 0.75, standoff 0, extent -3.85,-6.575 -3.65,-4.877
3D body: height 0.75, standoff 0, extent -1.85,-6.575 -1.65,-4.877
3D body: height 0.75, standoff 0, extent -1.35,-6.575 -1.15,-4.877
3D body: height 0.75, standoff 0, extent -2.35,-6.575 -2.15,-4.877
3D body: height 0.75, standoff 0, extent -2.85,-6.575 -2.65,-4.877
3D body: height 0.75, standoff 0, extent 0.15,-6.575 0.35,-4.877
3D body: height 0.75, standoff 0, extent 0.65,-6.575 0.85,-4.877
3D body: height 0.75, standoff 0, extent -0.35,-6.575 -0.15,-4.877
3D body: height 0.75, standoff 0, extent -0.85,-6.575 -0.65,-4.877
3D body: height 0.75, standoff 0, extent 2.15,-6.575 2.35,-4.877
3D body: height 0.75, standoff 0, extent 2.65,-6.575 2.85,-4.877
3D body: height 0.75, standoff 0, extent 1.65,-6.575 1.85,-4.877
3D body: height 0.75, standoff 0, extent 1.15,-6.575 1.35,-4.877
3D body: height 0.75, standoff 0, extent 4.15,-6.575 4.35,-4.877
3D body: height 0.75, standoff 0, extent 4.65,-6.575 4.85,-4.877
3D body: height 0.75, standoff 0, extent 3.65,-6.575 3.85,-4.877
3D body: height 0.75, standoff 0, extent 3.15,-6.575 3.35,-4.877
3D body: height 0.75, standoff 0, extent -6.575,-3.35 -4.877,-3.15
3D body: height 0.75, standoff 0, extent -6.575,-3.85 -4.877,-3.65
3D body: height 0.75, standoff 0, extent -6.575,-4.85 -4.877,-4.65
3D body: height 0.75, standoff 0, extent -6.575,-4.35 -4.877,-4.15
3D body: height 0.75, standoff 0, extent -6.575,-1.35 -4.877,-1.15
3D body: height 0.75, standoff 0, extent -6.575,-1.85 -4.877,-1.65
3D body: height 0.75, standoff 0, extent -6.575,-2.85 -4.877,-2.65
3D body: height 0.75, standoff 0, extent -6.575,-2.35 -4.877,-2.15
3D body: height 0.75, standoff 0, extent -6.575,0.65 -4.877,0.85
3D body: height 0.75, standoff 0, extent -6.575,0.15 -4.877,0.35
3D body: height 0.75, standoff 0, extent -6.575,-0.85 -4.877,-0.65
3D body: height 0.75, standoff 0, extent -6.575,-0.35 -4.877,-0.15
3D body: height 0.75, standoff 0, extent -6.575,2.65 -4.877,2.85
3D body: height 0.75, standoff 0, extent -6.575,2.15 -4.877,2.35
3D body: height 0.75, standoff 0, extent -6.575,1.15 -4.877,1.35
3D body: height 0.75, standoff 0, extent -6.575,1.65 -4.877,1.85
3D body: height 0.75, standoff 0, extent -6.575,3.65 -4.877,3.85
3D body: height 0.75, standoff 0, extent -6.575,3.15 -4.877,3.35
3D body: height 0.75, standoff 0, extent -6.575,4.15 -4.877,4.35
3D body: height 1.2, standoff 0.1, extent -5.5,-5.5 5.5,5.5
3D body: height 0.75, standoff 0, extent -6.575,4.65 -4.877,4.85